# Altium schematic symbol library MIC4690YM.SchLib: 2 symbols
Pins are listed as number, name and electrical type; pins without a type are passive.

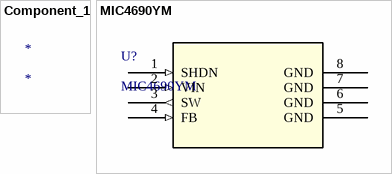
[diagram p0: symbols Component_1 to MIC4690YM]

## Component_1
designator *

## MIC4690YM
designator U?
No Description Available; Mfr_Name: Microchip; Copyright: Copyright (C) 2022 Ultra Librarian. All rights reserved.; Manufacturer_Part_Number: MIC4690YM; Digi-Key_Part_Number_1: 576-1225-ND; Digi-Key_Part_Number_2: MIC4690YM-CRL-ND; RefDes: RefDes; Type: DEV
footprint SOP8_MC_MCH
pins: 1 SHDN (in), 2 VIN (in), 3 SW (out), 4 FB (in), 5 GND (power), 6 GND (power), 7 GND (power), 8 GND (power)